# EAGLE library part BD91N01NUX-E2 (library components)
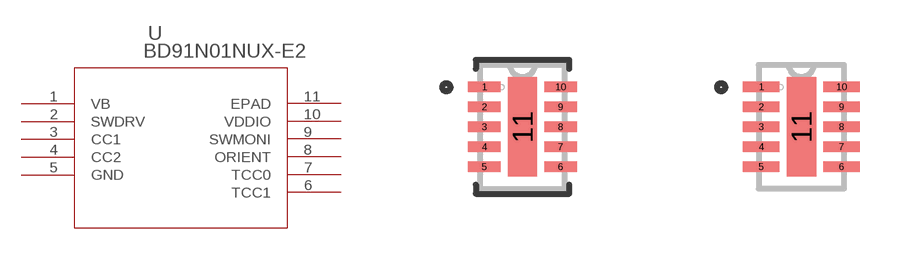
[diagram p0: symbol with the pads of VSON10_BD91N_ROM; footprints VSON10_BD91N_ROM, VSON10_BD91N_ROM-M]

Designator prefix U

## BD91N01NUX-E2 (COPYRIGHT: Copyright (C) 2025 Ultra Librarian. All rights reserved.; MANUFACTURER_PART_NUMBER: BD91N01NUX-E2; MFR_NAME: ROHM Semiconductor)  [VSON10_BD91N_ROM]
1  VB  pwr
2  SWDRV  out
3  CC1  pas
4  CC2  pas
5  GND  pas
6  TCC1  pas
7  TCC0  pas
8  ORIENT  pas
9  SWMONI  out
10  VDDIO  pwr
11  EPAD  pas

## BD91N01NUX-E2VSON10_BD91N_ROM-M (COPYRIGHT: Copyright (C) 2025 Ultra Librarian. All rights reserved.; MANUFACTURER_PART_NUMBER: BD91N01NUX-E2; MFR_NAME: ROHM Semiconductor)  [VSON10_BD91N_ROM-M]
Pads as for VSON10_BD91N_ROM

## BD91N01NUX-E2VSON10_BD91N_ROM-L (COPYRIGHT: Copyright (C) 2025 Ultra Librarian. All rights reserved.; MANUFACTURER_PART_NUMBER: BD91N01NUX-E2; MFR_NAME: ROHM Semiconductor)  [VSON10_BD91N_ROM-L]
Pads as for VSON10_BD91N_ROM

## Footprint VSON10_BD91N_ROM (pad centres in mm)
smd 0.813 x 0.254: 1 -0.953,1; 2 -0.953,0.5; 3 -0.953,0; 4 -0.953,-0.5; 5 -0.953,-1; 6 0.953,-1; 7 0.953,-0.5; 8 0.953,0; 9 0.953,0.5; 10 0.953,1
smd 0.737 x 2.489: 11 0,0

## Footprint VSON10_BD91N_ROM-M (pad centres in mm)
smd 0.914 x 0.254: 1 -1.003,1; 2 -1.003,0.5; 3 -1.003,0; 4 -1.003,-0.5; 5 -1.003,-1; 6 1.003,-1; 7 1.003,-0.5; 8 1.003,0; 9 1.003,0.5; 10 1.003,1
smd 0.737 x 2.489: 11 0,0

## Footprint VSON10_BD91N_ROM-L (pad centres in mm)
smd 0.711 x 0.254: 1 -0.902,1; 2 -0.902,0.5; 3 -0.902,0; 4 -0.902,-0.5; 5 -0.902,-1; 6 0.902,-1; 7 0.902,-0.5; 8 0.902,0; 9 0.902,0.5; 10 0.902,1
smd 0.737 x 2.489: 11 0,0